# EAGLE library part MAX232DRG4 (library MouserUseful)
RS-232 Interface IC Dual EIA-232 Driver/ Receiver Source: Datasheet <http://www.ti.com/general/docs/lit/getliterature.tsp?genericPartNumber=MAX232&fileType=pdf&HQS=ti-null-null-sf-df-pf-sep-wwe&DCM=yes>
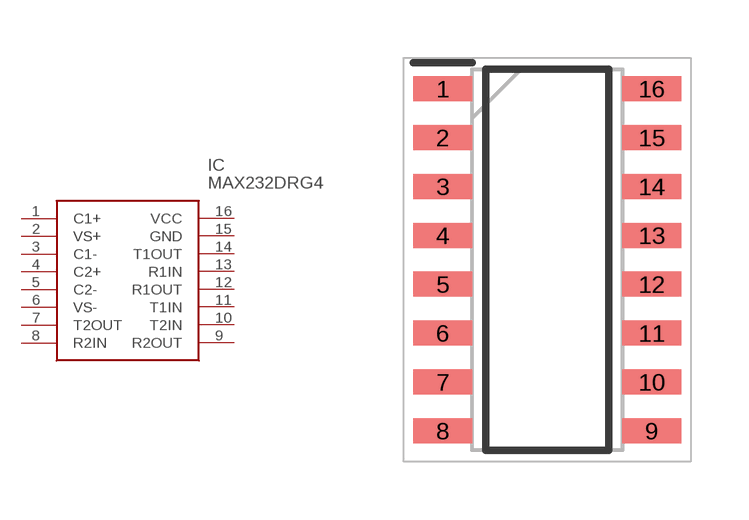
[diagram p5: symbol with the pads of SOIC127P600X175-16N; footprint SOIC127P600X175-16N]

Designator prefix IC

## MAX232DRG4 (DESCRIPTION: RS-232 Interface IC Dual EIA-232 Driver/ Receiver; HEIGHT: 1.75mm; MANUFACTURER_NAME: Texas Instruments; MANUFACTURER_PART_NUMBER: MAX232DRG4; MOUSER_PART_NUMBER: 595-MAX232DRG4; MOUSER_PRICE-STOCK: https://www.mouser.co.uk/ProductDetail/Texas-Instruments/MAX232DRG4?qs=tP77tliwutBAhcsawRpYug%3D%3D)  [SOIC127P600X175-16N]
1  C1+
2  VS+
3  C1-
4  C2+
5  C2-
6  VS-
7  T2OUT
8  R2IN
9  R2OUT
10  T2IN
11  T1IN
12  R1OUT
13  R1IN
14  T1OUT
15  GND
16  VCC

## Footprint SOIC127P600X175-16N (pad centres in mm)
MAX232DRG4-1
smd 1.525 x 0.65: 1 -2.712,4.445; 2 -2.712,3.175; 3 -2.712,1.905; 4 -2.712,0.635; 5 -2.712,-0.635; 6 -2.712,-1.905; 7 -2.712,-3.175; 8 -2.712,-4.445; 9 2.712,-4.445; 10 2.712,-3.175; 11 2.712,-1.905; 12 2.712,-0.635; 13 2.712,0.635; 14 2.712,1.905; 15 2.712,3.175; 16 2.712,4.445